# Altium schematic symbol library 691 701 520 0xx B.SchLib: 11 symbols
Pins are listed as number, name and electrical type; pins without a type are passive.

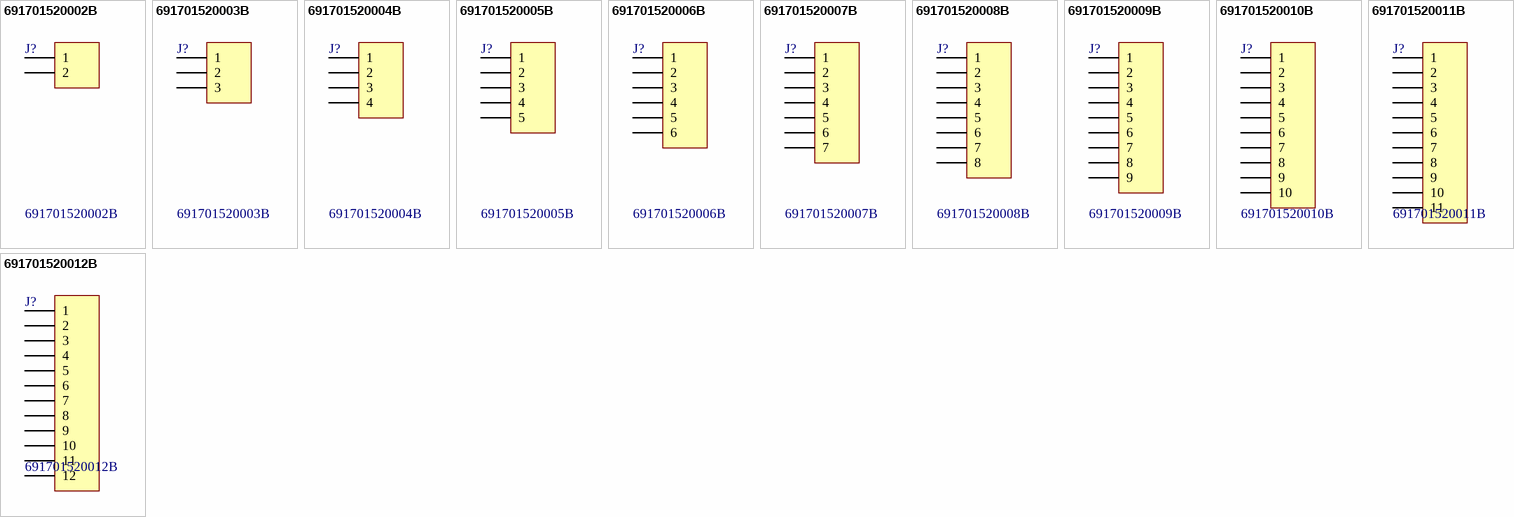
[diagram p0: symbols 691701520002B to 691701520012B]

## 691701520002B
designator J?
WR-TBL Terminal Blocks Serie 7015 B - 5.08 mm THR Type with Flanges; Manufacturer: Würth Elektronik eiSos GmbH; ComponentLink1 Description: Manufacturer; ComponentLink2 Description: Datasheet; NoPins: 02; Created Date: 25 March 2014; partNo: 691701520002B; ComponentLink1URL: http://www.we-online.com; ComponentLink2URL: http://katalog.we-online.de/em/datasheet/6917015200xxB.pdf; Created by: Karrer Zheng; Value: 691701520002B
footprint 691701520002B (THR - 5,08mm - PCB Vertical Flange - 02p)
pins: 1, 2

## 691701520003B
designator J?
WR-TBL Terminal Blocks Serie 7015 B - 5.08 mm THR Type with Flanges; Manufacturer: Würth Elektronik eiSos GmbH; ComponentLink1 Description: Manufacturer; ComponentLink2 Description: Datasheet; NoPins: 03; Created Date: 25 March 2014; partNo: 691701520003B; ComponentLink1URL: http://www.we-online.com; ComponentLink2URL: http://katalog.we-online.de/em/datasheet/6917015200xxB.pdf; Created by: Karrer Zheng; Value: 691701520003B
footprint 691701520003B (THR - 5,08mm - PCB Vertical Flange - 03p)
pins: 1, 2, 3

## 691701520004B
designator J?
WR-TBL Terminal Blocks Serie 7015 B - 5.08 mm THR Type with Flanges; Manufacturer: Würth Elektronik eiSos GmbH; ComponentLink1 Description: Manufacturer; ComponentLink2 Description: Datasheet; NoPins: 04; Created Date: 25 March 2014; partNo: 691701520004B; ComponentLink1URL: http://www.we-online.com; ComponentLink2URL: http://katalog.we-online.de/em/datasheet/6917015200xxB.pdf; Created by: Karrer Zheng; Value: 691701520004B
footprint 691701520004B (THR - 5,08mm - PCB Vertical Flange - 04p)
pins: 1, 2, 3, 4

## 691701520005B
designator J?
WR-TBL Terminal Blocks Serie 7015 B - 5.08 mm THR Type with Flanges; Manufacturer: Würth Elektronik eiSos GmbH; ComponentLink1 Description: Manufacturer; ComponentLink2 Description: Datasheet; NoPins: 05; Created Date: 25 March 2014; partNo: 691701520005B; ComponentLink1URL: http://www.we-online.com; ComponentLink2URL: http://katalog.we-online.de/em/datasheet/6917015200xxB.pdf; Created by: Karrer Zheng; Value: 691701520005B
footprint 691701520005B (THR - 5,08mm - PCB Vertical Flange - 05p)
pins: 1, 2, 3, 4, 5

## 691701520006B
designator J?
WR-TBL Terminal Blocks Serie 7015 B - 5.08 mm THR Type with Flanges; Manufacturer: Würth Elektronik eiSos GmbH; ComponentLink1 Description: Manufacturer; ComponentLink2 Description: Datasheet; NoPins: 06; Created Date: 25 March 2014; partNo: 691701520006B; ComponentLink1URL: http://www.we-online.com; ComponentLink2URL: http://katalog.we-online.de/em/datasheet/6917015200xxB.pdf; Created by: Karrer Zheng; Value: 691701520006B
footprint 691701520006B (THR - 5,08mm - PCB Vertical Flange - 06p)
pins: 1, 2, 3, 4, 5, 6

## 691701520007B
designator J?
WR-TBL Terminal Blocks Serie 7015 B - 5.08 mm THR Type with Flanges; Manufacturer: Würth Elektronik eiSos GmbH; ComponentLink1 Description: Manufacturer; ComponentLink2 Description: Datasheet; NoPins: 07; Created Date: 25 March 2014; partNo: 691701520007B; ComponentLink1URL: http://www.we-online.com; ComponentLink2URL: http://katalog.we-online.de/em/datasheet/6917015200xxB.pdf; Created by: Karrer Zheng; Value: 691701520007B
footprint 691701520007B (THR - 5,08mm - PCB Vertical Flange - 07p)
pins: 1, 2, 3, 4, 5, 6, 7

## 691701520008B
designator J?
WR-TBL Terminal Blocks Serie 7015 B - 5.08 mm THR Type with Flanges; Manufacturer: Würth Elektronik eiSos GmbH; ComponentLink1 Description: Manufacturer; ComponentLink2 Description: Datasheet; NoPins: 08; Created Date: 25 March 2014; partNo: 691701520008B; ComponentLink1URL: http://www.we-online.com; ComponentLink2URL: http://katalog.we-online.de/em/datasheet/6917015200xxB.pdf; Created by: Karrer Zheng; Value: 691701520008B
footprint 691701520008B (THR - 5,08mm - PCB Vertical Flange - 08p)
pins: 1, 2, 3, 4, 5, 6, 7, 8

## 691701520009B
designator J?
WR-TBL Terminal Blocks Serie 7015 B - 5.08 mm THR Type with Flanges; Manufacturer: Würth Elektronik eiSos GmbH; ComponentLink1 Description: Manufacturer; ComponentLink2 Description: Datasheet; NoPins: 09; Created Date: 25 March 2014; partNo: 691701520009B; ComponentLink1URL: http://www.we-online.com; ComponentLink2URL: http://katalog.we-online.de/em/datasheet/6917015200xxB.pdf; Created by: Karrer Zheng; Value: 691701520009B
footprint 691701520009B (THR - 5,08mm - PCB Vertical Flange - 09p)
pins: 1, 2, 3, 4, 5, 6, 7, 8, 9

## 691701520010B
designator J?
WR-TBL Terminal Blocks Serie 7015 B - 5.08 mm THR Type with Flanges; Manufacturer: Würth Elektronik eiSos GmbH; ComponentLink1 Description: Manufacturer; ComponentLink2 Description: Datasheet; NoPins: 10; Created Date: 25 March 2014; partNo: 691701520010B; ComponentLink1URL: http://www.we-online.com; ComponentLink2URL: http://katalog.we-online.de/em/datasheet/6917015200xxB.pdf; Created by: Karrer Zheng; Value: 691701520010B
footprint 691701520010B (THR - 5,08mm - PCB Vertical Flange - 10p)
pins: 1, 2, 3, 4, 5, 6, 7, 8, 9, 10

## 691701520011B
designator J?
WR-TBL Terminal Blocks Serie 7015 B - 5.08 mm THR Type with Flanges; Manufacturer: Würth Elektronik eiSos GmbH; ComponentLink1 Description: Manufacturer; ComponentLink2 Description: Datasheet; NoPins: 11; Created Date: 25 March 2014; partNo: 691701520011B; ComponentLink1URL: http://www.we-online.com; ComponentLink2URL: http://katalog.we-online.de/em/datasheet/6917015200xxB.pdf; Created by: Karrer Zheng; Value: 691701520011B
footprint 691701520011B (THR - 5,08mm - PCB Vertical Flange - 11p)
pins: 1, 2, 3, 4, 5, 6, 7, 8, 9, 10, 11

## 691701520012B
designator J?
WR-TBL Terminal Blocks Serie 7015 B - 5.08 mm THR Type with Flanges; Manufacturer: Würth Elektronik eiSos GmbH; ComponentLink1 Description: Manufacturer; ComponentLink2 Description: Datasheet; NoPins: 12; Created Date: 25 March 2014; partNo: 691701520012B; ComponentLink1URL: http://www.we-online.com; ComponentLink2URL: http://katalog.we-online.de/em/datasheet/6917015200xxB.pdf; Created by: Karrer Zheng; Value: 691701520012B
footprint 691701520012B (THR - 5,08mm - PCB Vertical Flange - 12p)
pins: 1, 2, 3, 4, 5, 6, 7, 8, 9, 10, 11, 12